# EAGLE library part HSCMNNN1.6BAAA3 (library NR_IC)
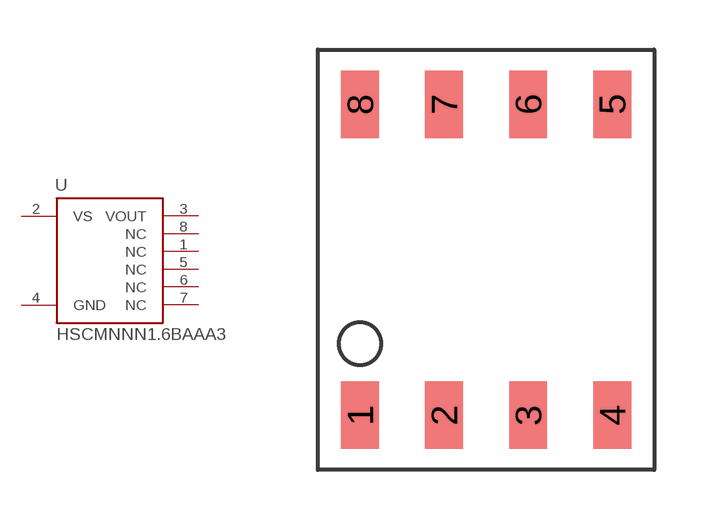
[diagram p3: symbol with the pads of HSC-SMT-8; footprint HSC-SMT-8]

Designator prefix U

## HSCMNNN1.6BAAA3  [HSC-SMT-8]
1  NC  nc
2  VS  pwr
3  VOUT
4  GND  pwr
5  NC  nc
6  NC  nc
7  NC  nc
8  NC  nc

## Footprint HSC-SMT-8 (pad centres in mm)
smd 1.143 x 2.032: 1 -3.81,-4.699; 2 -1.27,-4.699; 3 1.27,-4.699; 4 3.81,-4.699; 5 3.81,4.699; 6 1.27,4.699; 7 -1.27,4.699; 8 -3.81,4.699